# Altium footprint library GOSTConnector.PcbLib: 6 footprints
Each footprint in its own frame and in the unit in brackets; x right, y up, seen from the top. Pads: shape width x height; smd on the part's side, far side on the other; paste and mask are expansions set on the pad; w line width, h text height; cw(c..) or ccw(c..) is an arc to the next point about the centre after c.
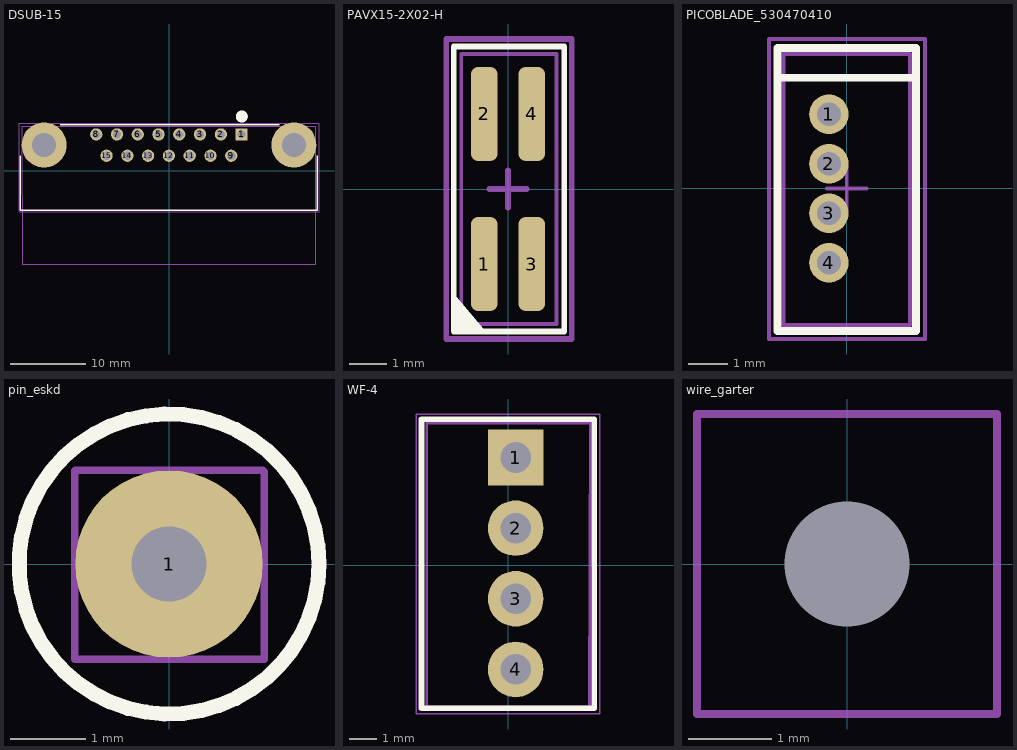
[diagram p0: the footprints below, top view; thin cyan lines are the x and y axes]

## DSUB-15 [mm]
pads (17):
  rect 1.635x1.635 hole 1.09: 1(9.682,4.817)
  round 1.635 hole 1.09: 2(6.912,4.817) 3(4.142,4.817) 4(1.372,4.817) 5(-1.398,4.817) 6(-4.168,4.817) 7(-6.938,4.817) 8(-9.708,4.817) 9(8.297,1.977) 10(5.527,1.977) 11(2.757,1.977) 12(-0.013,1.977) 13(-2.783,1.977) 14(-5.553,1.977) 15(-8.323,1.977)
  round 6 hole 3.2: ""(-16.655,3.4) ""(16.655,3.4)
Top Overlay:
  circle w0.8: c9.7,7.2 r0.4
  lines w0.2: -19.8,2 -19.8,-5.3 8.15,-5.3 19.759,-5.3 19.759,2 ; -14.5,6.1 14.7,6.1
Mechanical 7:
  lines w0.1: -19.603,5.9 -19.577,-12.525 19.6,-12.5 19.6,5.888 -19.603,5.9
Mechanical 9:
  text ".Designator" at -4.8,9.5 h3.5
Mechanical 10:
  text ".Comment" at -2.6,7.1 h2
Mechanical 15:
  lines w0.05: -20,-5.5 -20,6.3 20,6.3 20,-5.5 -20,-5.5
3D body "User Library-DRB-15FA.step": height 12.5, standoff -4.65, extent -19.57,-12.52 19.57,5.88

## PAVX15-2X02-H [mm]
pads (4):
  rrect50% 0.7x2.5 smd: 1(-0.635,-2) 2(-0.635,2) 3(0.635,-2) 4(0.635,2)
Top Overlay:
  region: -1.445,-2.8 -1.445,-3.8 -0.595,-3.8
  lines w0.15: -1.445,-3.8 1.495,-3.8 1.495,3.8 -1.445,3.8 -1.445,-3.8
Mechanical 7:
  lines w0.1: -1.25,-3.6 1.295,-3.6 1.295,3.6 -1.25,3.6 -1.25,-3.6
Mechanical 9:
  text ".Designator" at -5.2,5.4 h3.5
Mechanical 10:
  text ".Comment" at -2.9,-5.6 h2
Mechanical 15:
  lines w0.15: -0.5,0 0.5,0 ; 0,-0.5 0,0.5 ; 1.695,4 -1.645,4 -1.645,-4 1.695,-4 1.695,4 ; 1.695,4 1.695,4
3D body "Äåòàëü14.STEP": height 7.73, standoff -0.04, extent -1.245,-3.6 1.295,3.6

## PICOBLADE_530470410 [mm]
pads (4):
  round 1 hole 0.6 mask+0: 1(-0.45,1.875) 2(-0.45,0.625) 3(-0.45,-0.625) 4(-0.45,-1.875)
Top Overlay:
  lines w0.2: -1.75,2.8 1.75,2.8 ; -1.75,-3.6 1.75,-3.6 1.75,3.55 -1.75,3.55 -1.75,-3.6
Mechanical 9:
  text ".Designator" at -5.2,5.4 h3.5
Mechanical 10:
  text ".Comment" at -2.9,-5.6 h2
Mechanical 11:
  lines w0.1: -1.6,2.8 1.6,2.8 ; -1.6,-3.45 1.6,-3.45 1.6,3.4 -1.6,3.4 -1.6,-3.45
Mechanical 15:
  lines w0.1: -0.5,0 0.5,0 ; 0,-0.5 0,0.5 ; -1.966,-3.805 1.979,-3.805 1.979,3.779 -1.966,3.779 -1.966,-3.805
3D body "530470410.stp": height 4.28, standoff -2.22, extent -1.6,-3.375 1.6,3.375

## pin_eskd [mm]
pads (1):
  round 2.5 hole 1: 1(0,0)
Top Overlay:
  circle w0.2: c0,0 r2
Mechanical 7:
  lines w0.1: -1.254,1.246 -1.254,-1.27 1.27,-1.27 1.27,1.23 1.25,1.25 -1.25,1.25
Mechanical 15:
  circle w0.1: c0,0 r1.971
  lines w0.1: -0.254,0 0.254,0 ; 0,-0.254 0,0.254
3D body "Øòûðü.STEP": height 5, standoff -3, extent -1.25,-1.25 1.25,1.25

## WF-4 [mm] "4 pin male connector on PCB. Pitch 2,54 mm (10 mil)"
height 0.05
pads (4):
  rect 2x2 hole 1.1: 1(0.275,3.87)
  round 2 hole 1.1: 2(0.275,1.33) 3(0.275,-1.21)
  round 2 hole 1.1 mask+0.102: 4(0.275,-3.75)
Top Overlay:
  lines w0.2: -3.11,-5.15 -3.11,5.25 3.106,5.25 3.106,-5.15 -3.11,-5.15
Mechanical 7:
  lines w0.1: -2.925,-5.1 2.928,-5.1 2.96,5.1 -2.925,5.1 -2.925,-5.1
Mechanical 9:
  text ".Designator" at 3.5,0.6 h3.5
Mechanical 10:
  text ".Comment" at 3.5,-1.5 h2
Mechanical 15:
  lines w0.05: -3.3,-5.352 -3.3,-5.1 -3.3,5.435 3.3,5.435 3.3,-5.352 -3.3,-5.352
3D body "User Library-WF-4.step": height 11.75, standoff -2.53, extent -2.926,-5.03 2.974,5.13

## wire_garter [mm] "Ïîäâÿçêà ïðîâîäà ê ïëàòå"
pads (1):
  round 0 hole 1.5: ""(0,0)
Mechanical 15:
  lines w0.1: -1.8,-1.8 1.8,-1.8 1.8,1.8 -1.8,1.8 -1.8,-1.8